# EAGLE library part SMD.1X14 (library untitled)
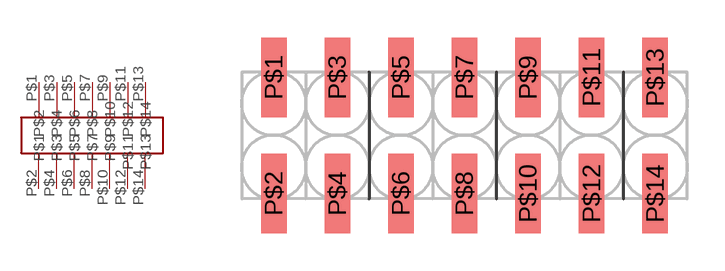
[diagram p12: symbol with the pads of SMD0.1X14; footprint SMD0.1X14]

Designator prefix -

## SMD.1X14  [SMD0.1X14]
P$1  P$1
P$2  P$2
P$3  P$3
P$4  P$4
P$5  P$5
P$6  P$6
P$7  P$7
P$8  P$8
P$9  P$9
P$10  P$10
P$11  P$11
P$12  P$12
P$13  P$13
P$14  P$14

## Footprint SMD0.1X14 (pad centres in mm)
smd 1.02 x 3.18: P$1 -7.62,2.32; P$2 -7.62,-2.32; P$3 -5.08,2.32; P$4 -5.08,-2.32; P$5 -2.54,2.32; P$6 -2.54,-2.32; P$7 0,2.32; P$8 0,-2.32; P$9 2.54,2.32; P$10 2.54,-2.32; P$11 5.08,2.32; P$12 5.08,-2.32; P$13 7.62,2.32; P$14 7.62,-2.32